# Altium schematic symbol library Photo Sen.Schlib: 1 symbol
Pins are listed as number, name and electrical type; pins without a type are passive.

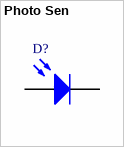
[diagram p0: symbol Photo Sen]

## Photo Sen
designator D?
Photosensitive Diode
pins: 1 A, 2 K